# Altium footprint library Inductors_sizes.PcbLib: 13 footprints
Each footprint in its own frame and in the unit in brackets; x right, y up, seen from the top. Pads: shape width x height; smd on the part's side, far side on the other; paste and mask are expansions set on the pad; w line width, h text height; cw(c..) or ccw(c..) is an arc to the next point about the centre after c.
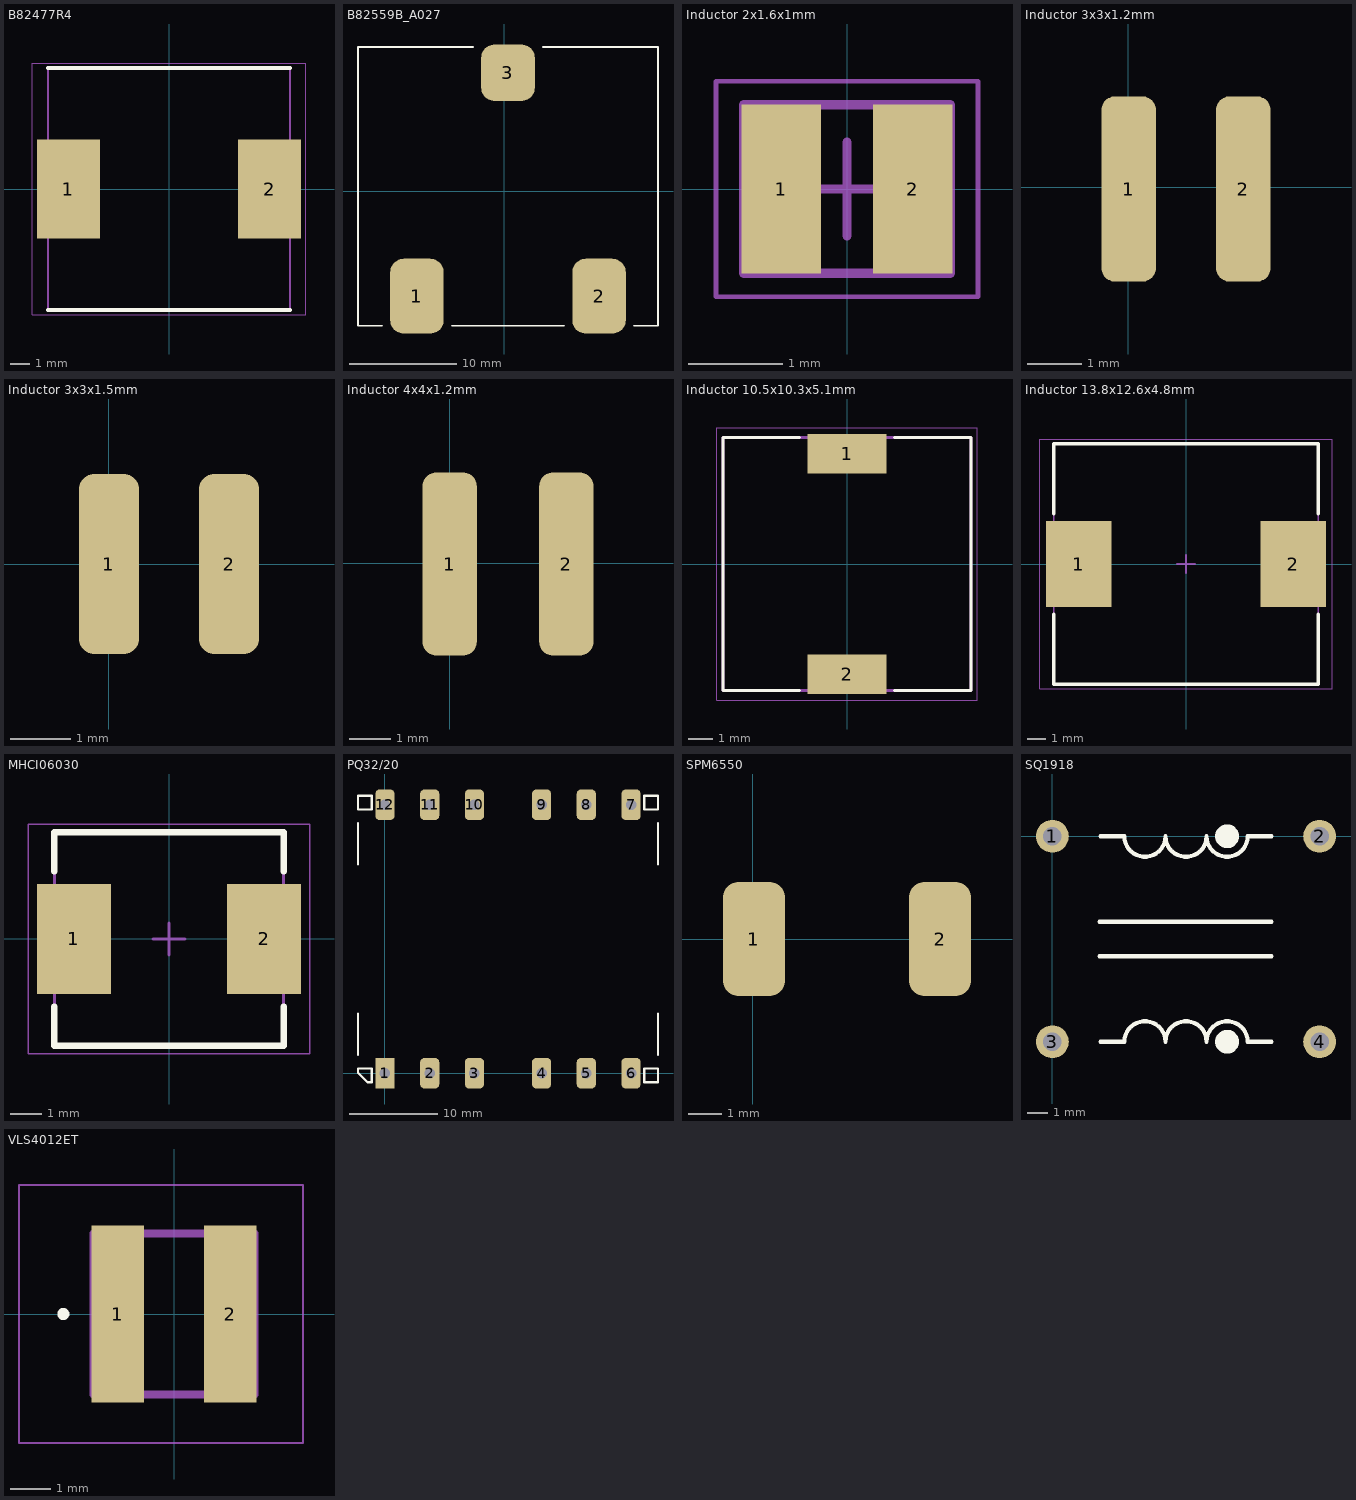
[diagram p0: the footprints below, top view; thin cyan lines are the x and y axes]

## B82477R4 [mm]
pads (2):
  rect 3.25x5.1 smd: 1(-5.2,0) 2(5.2,0)
Top Overlay:
  lines w0.2: -6.25,-6.25 6.25,-6.25 ; -6.25,6.25 6.25,6.25
Mechanical 13:
  lines w0.1: -6.25,-6.25 6.25,-6.25 6.25,6.25 -6.25,6.25 -6.25,-6.25
Mechanical 15:
  lines w0.05: -7.075,-6.5 7.075,-6.5 7.075,6.5 -7.075,6.5 -7.075,-6.5
3D body "B82477R4562M100.stp": height 7.8, standoff 0, extent -6,-6 6,6

## B82559B_A027 [mm]
pads (3):
  rrect50% 5x7 smd: 1(-8.155,-9.77) 2(8.845,-9.77)
  rrect50% 5x5.3 smd: 3(0.345,11.08)
Top Overlay:
  lines w0.15: -11.405,-12.52 -13.655,-12.52 -13.655,13.48 -2.905,13.48 ; -4.905,-12.52 5.595,-12.52 ; 3.595,13.48 14.345,13.48 14.345,-12.52 12.095,-12.52
3D body "B82559B7103A027.STEP": height 17, standoff 0, extent -13.555,-12.42 14.245,13.38

## Inductor 2x1.6x1mm [mm]
pads (2):
  rect 0.85x1.8 smd: 1(-0.7,0) 2(0.7,0)
Mechanical 13:
  lines w0.1: -1.1,-0.9 -1.1,0.9 1.1,0.9 1.1,-0.9 -1.1,-0.9
Mechanical 15:
  lines w0.05: -1.397,-1.15 -1.397,1.15 1.397,1.15 1.397,-1.15 -1.397,-1.15
  lines w0.1: -0.5,0 0.5,0 ; 0,-0.5 0,0.5
3D body: height 1, standoff 0, extent -1.1,-0.9 1.1,0.9

## Inductor 3x3x1.2mm [mm]
pads (2):
  rrect50% 1x3.4 smd: 1(0.011,-0.029) 2(2.111,-0.029)

## Inductor 3x3x1.5mm [mm]
pads (2):
  rrect50% 1x3 smd: 1(0,0) 2(2,0)

## Inductor 4x4x1.2mm [mm]
pads (2):
  rrect50% 1.3x4.4 smd: 1(-0.002,-0.023) 2(2.798,-0.023)

## Inductor 10.5x10.3x5.1mm [mm]
pads (2):
  rect 3.2x1.6 smd: 1(0,4.45) 2(0,-4.45)
Top Overlay:
  lines w0.127: -1.92,-5.1 -5,-5.1 -5,5.1 -1.92,5.1 ; 1.92,-5.1 5,-5.1 5,5.1 1.92,5.1
Mechanical 13:
  lines w0.127: -5,-5.1 5,-5.1 5,5.1 -5,5.1 -5,-5.1
Mechanical 15:
  lines w0.05: -5.25,-5.5 -5.25,5.5 5.25,5.5 5.25,-5.5 -5.25,-5.5

## Inductor 13.8x12.6x4.8mm [mm]
pads (2):
  rect 3.5x4.6 smd: 1(-5.75,0) 2(5.75,0)
Top Overlay:
  lines w0.2: -7.1,-2.7 -7.1,-6.45 7.1,-6.45 7.1,-2.7 ; -7.1,2.7 -7.1,6.45 7.1,6.45 7.1,2.7
Mechanical 13:
  lines w0.1: -7.1,-6.45 7.1,-6.45 7.1,6.45 -7.1,6.45 -7.1,-6.45
Mechanical 15:
  lines w0.05: -7.85,-6.7 7.85,-6.7 7.85,6.7 -7.85,6.7 -7.85,-6.7
  lines w0.1: -0.5,0 0.5,0 ; 0,-0.5 0,0.5
3D body: height 5.1, standoff 0, extent -7.1,-6.45 7.1,6.45

## MHCI06030 [mm]
pads (2):
  rect 2.35x3.5 smd: 1(-3.025,0) 2(3.025,0)
Top Overlay:
  lines w0.2: -3.65,-2.15 -3.65,-3.4 3.65,-3.4 3.65,-2.15 ; -3.65,2.15 -3.65,3.4 3.65,3.4 3.65,2.15
Mechanical 13:
  lines w0.1: -3.65,-3.4 -3.65,3.4 3.65,3.4 3.65,-3.4 -3.65,-3.4
Mechanical 15:
  lines w0.05: -4.475,-3.65 -4.475,3.65 4.475,3.65 4.475,-3.65 -4.475,-3.65
  lines w0.1: -0.5,0 0.5,0 ; 0,-0.5 0,0.5
3D body: height 3, standoff 0, extent -3.65,-3.4 3.65,3.4

## PQ32/20 [mm] "Ferrite and bobbin"
pads (12):
  rect 2.2x3.5 hole 1.2: 1(0,0)
  rrect50% 2.2x3.5 hole 1.2: 2(5.08,0) 3(10.16,0) 4(17.78,0) 5(22.86,0) 6(27.94,0) 7(27.94,30.48) 8(22.86,30.48) 9(17.78,30.48) 10(10.16,30.48) 11(5.08,30.48) 12(0,30.48)
Top Overlay:
  lines w0.25: -3.06,2.1 -3.06,3.66 -3.06,5.22 -3.06,6.78 ; -3.06,23.7 -3.06,25.26 -3.06,26.82 -3.06,28.38 ; 31,2.1 31,3.66 31,5.22 31,6.78 ; 31,23.7 31,25.26 31,26.82 31,28.38 ; -3.06,0.06 -3.06,0.54 -1.5,0.54 -1.5,-1.02 -1.98,-1.02 -3.06,0.06 ; -3.06,29.94 -1.5,29.94 -1.5,31.5 -2,31.5 -3.06,31.5 -3.06,30.44 -3.06,29.94 ; 29.44,-1.02 31,-1.02 31,0.54 29.44,0.54 29.44,-1.02 ; 29.44,29.94 31,29.94 31,31.5 29.44,31.5 29.44,29.94
3D body "PQ3220VERT.STEP": height 22.8, standoff -5.3, extent -2.5,-1.8 30.5,32.2

## SPM6550 [mm]
pads (2):
  rrect50% 1.85x3.4 smd: 1(0.038,0) 2(5.588,0)

## SQ1918 [mm]
pads (4):
  round 1.6 hole 0.9: 1(0,0) 2(13,0) 3(0,-10) 4(13,-10)
Top Overlay:
  circle w0.6: c8.5,-10 r0.28
  circle w0.6: c8.5,0 r0.28
  lines w0.2: 2.286,-5.842 10.668,-5.842 ; 2.286,-4.158 10.668,-4.158 ; 2.342,-10 3.5,-10 cw(c4.5,-10) 5.5,-10 cw(c6.5,-10) 7.5,-10 cw(c8.5,-10) 9.5,-10 10.659,-10 ; 2.342,0 3.5,0 ccw(c4.5,0) 5.5,0 ccw(c6.5,0) 7.5,0 ccw(c8.5,0) 9.5,0 10.659,0
3D body "SQ1918.STEP": height 25.4, standoff -3.1, extent -5.799,-11.59 18.819,1.769

## VLS4012ET [mm]
pads (2):
  rect 1.3x4.4 smd: 1(-1.4,0) 2(1.4,0)
Top Overlay:
  circle w0.2: c-2.75,0 r0.05
Mechanical 13:
  lines w0.2: -2,-2 2,-2 2,2 -2,2 -2,-2
Mechanical 15:
  lines w0.05: -3.85,-3.2 3.2,-3.2 3.2,3.2 -3.85,3.2 -3.85,-3.2
3D body "VLS4012CX-2R2M-1.stp": height 1.2, standoff 0, extent -2.002,-2.005 2.002,2.005